# Altium integrated library NSC Legacy.IntLib: 687 symbols (part 11 of 17)
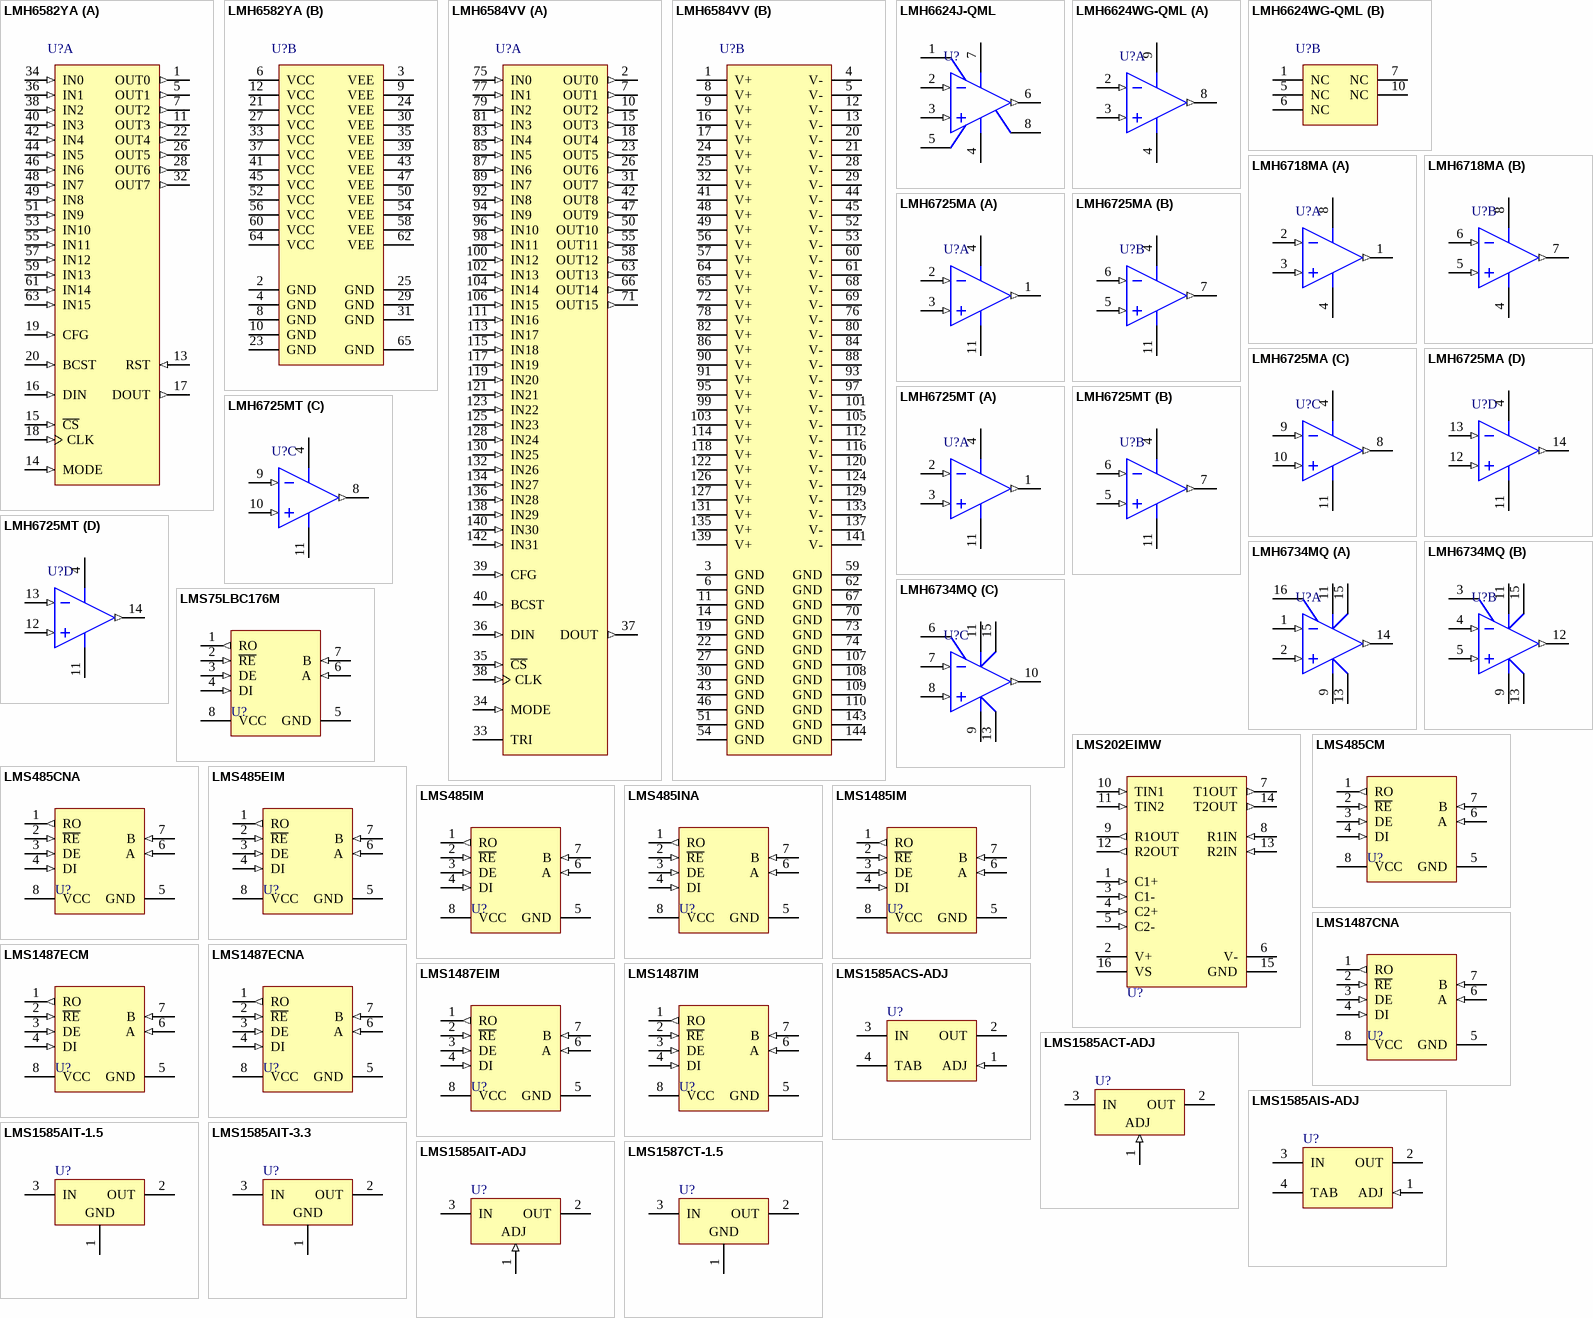
[diagram p34: symbols LMH6582YA to LMS1587CT-1.5]

## LMH6725MT
designator U?
Single/Quad 370 MHz 1 mA Current Feedback Op Amp, 14-pin TSSOP; PartNumber: LMH6725MT; Manufacturer: National Semiconductor; PackageTopMarking: NSUZXYTT*LMH67*25MT; PowerWise: Y; CompType: Amplifiers; Published: 4-Dec-2008; LatestRevisionDate: 13-Jan-2009; LatestRevisionNote: Sim Model Added.; DatasheetVersion: Aug-2005; PackageVersion: revD, Jun-2003; PackageReference: MTC14; Publisher: Altium Limited; PackageDescription: Molded TSSOP, JEDEC, 5 x 4.4 x 0.9mm Body, 14 Lead, 0.65mm Pitch; Supplier 1: Farnell; Supplier Part Number 1: 1286776; RoHS: Y; PinCount: 14; Code_JEDEC: MO-153-AB-1; ComponentLink1Description: LMH6725 Datasheet; ComponentLink1URL: http://www.national.com/ds/LM/LMH6725.pdf; ComponentLink2Description: LMH6725 Web Page; ComponentLink2URL: http://www.national.com/pf/LM/LMH6725.html; ComponentLink3Description: MTC14 Package Page; ComponentLink3URL: http://www.national.com/packaging/folders/mtc14.html
footprint MTC14_N (TSOP, 14-Leads, Body 5x4.4mm, Pitch 0.65mm, IPC Medium Density)
footprint MTC14_L (TSOP, 14-Leads, Body 5x4.4mm, Pitch 0.65mm, IPC High Density)
footprint MTC14_M (TSOP, 14-Leads, Body 5x4.4mm, Pitch 0.65mm, IPC Low Density)
simulation model LMH6723 (SUBCKT)
pins on every part: 4 V+ (power), 11 V- (power)
part A pins: 1 OUTA (out), 2 INA- (in), 3 INA+ (in)
part B pins: 5 INB+ (in), 6 INB- (in), 7 OUTB (out)
part C pins: 8 OUTC (out), 9 INC- (in), 10 INC+ (in)
part D pins: 12 IND+ (in), 13 IND- (in), 14 OUTD (out)

## LMH6734MQ
designator U?
Single Supply, Ultra High-Speed, Triple Selectable Gain Buffer, 16-pin SSOP; PartNumber: LMH6734MQ; Manufacturer: National Semiconductor; PackageTopMarking: NSXYTT*LH67*34MQ; PowerWise: Y; CompType: Amplifiers; Published: 4-Dec-2008; DatasheetVersion: Sep-2007; PackageVersion: revB, Jan-2005; PackageReference: MQA16; Publisher: Altium Limited; PackageDescription: SSOP, .150in Body Width, .025in Pitch, 16 Lead; Supplier 1: Farnell; Supplier Part Number 1: 1433156; RoHS: Y; PinCount: 16; Code_JEDEC: MO-137-AB; ComponentLink1Description: LMH6734 Datasheet; ComponentLink1URL: http://www.national.com/ds/LM/LMH6734.pdf; ComponentLink2Description: LMH6734 Web Page; ComponentLink2URL: http://www.national.com/pf/LM/LMH6734.html; ComponentLink3Description: MQA16 Package Page; ComponentLink3URL: http://www.national.com/packaging/folders/mqa16.html
footprint MQA16_N (SOP, 16-Leads, Body 4.9x3.9mm, Pitch 0.635mm, IPC Medium Density)
footprint MQA16_L (SOP, 16-Leads, Body 4.9x3.9mm, Pitch 0.635mm, IPC High Density)
footprint MQA16_M (SOP, 16-Leads, Body 4.9x3.9mm, Pitch 0.635mm, IPC Low Density)
pins on every part: 9 VS- (power), 11 VS+ (power), 13 VS- (power), 15 VS+ (power)
part A pins: 1 INA- (in), 2 INA+ (in), 14 OUTA (out), 16 ~{DIS A}
part B pins: 3 ~{DIS B}, 4 INB- (in), 5 INB+ (in), 12 OUTB (out)
part C pins: 6 ~{DIS C}, 7 INC- (in), 8 INC+ (in), 10 OUTC (out)

## LMS75LBC176M
designator U?
Differential Bus Transceivers, 8-pin Narrow SOIC; PartNumber: LMS75LBC176M; Manufacturer: National Semiconductor; PackageTopMarking: NSZXTT*75LBC*176; CompType: Interface IC; Published: 4-Dec-2008; DatasheetVersion: Apr-2003; PackageVersion: revM, May-2009; PackageReference: M08A; Publisher: Altium Limited; PackageDescription: SOIC Narrow, 4.9 x 3.9 x 1.45mm, 8 Lead, 1.27mm Pitch; Supplier 1: Farnell; Supplier Part Number 1: 9490760; RoHS: Y; PinCount: 8; Code_JEDEC: MS-012-AA; Code_IPC: SOIC127P600-8; ComponentLink1Description: LMS75LBC176 Datasheet; ComponentLink1URL: http://www.national.com/ds/LM/LMS75LBC176.pdf; ComponentLink2Description: LMS75LBC176 Web Page; ComponentLink2URL: http://www.national.com/pf/LM/LMS75LBC176.html; ComponentLink3Description: M08A Package Page; ComponentLink3URL: http://www.national.com/packaging/folders/m08a.html
footprint M08A_N (SOIC, 8-Leads, Body 4.9x3.9mm, Pitch 1.27mm, IPC Medium Density)
footprint M08A_L (SOIC, 8-Leads, Body 4.9x3.9mm, Pitch 1.27mm, IPC High Density)
footprint M08A_M (SOIC, 8-Leads, Body 4.9x3.9mm, Pitch 1.27mm, IPC Low Density)
pins: 1 RO (out), 2 ~{RE} (in), 3 DE (in), 4 DI (in), 5 GND (power), 6 A (in), 7 B (in), 8 VCC (power)

## LMS202EIMW
designator U?
15KV ESD Rated, 5V Single Supply TIA/EIA-232 Dual Transceivers, 16-pin Wide SOIC; PartNumber: LMS202EIMW; Manufacturer: National Semiconductor; PackageTopMarking: NSUZXYTT*LMS202*EIMW; CompType: Interface IC; Published: 4-Dec-2008; DatasheetVersion: Mar-2003; PackageVersion: revF, Apr-1990; PackageReference: M16B; Publisher: Altium Limited; PackageDescription: Molded Package, S.O., .300in Wide, 16 Lead; Supplier 1: Farnell; Supplier Part Number 1: 9493298; RoHS: Y; PinCount: 16; Code_JEDEC: MS-013-AA; Code_IPC: SOIC127P1030-16; ComponentLink1Description: LMS202E Datasheet; ComponentLink1URL: http://www.national.com/ds/LM/LMS202E.pdf; ComponentLink2Description: LMS202E Web Page; ComponentLink2URL: http://www.national.com/pf/LM/LMS202E.html; ComponentLink3Description: M16B Package Page; ComponentLink3URL: http://www.national.com/packaging/folders/m16b.html
footprint M16B_N (SOIC, 16-Leads, Body 10.3x7.5mm, Pitch 1.27mm, IPC Medium Density)
footprint M16B_L (SOIC, 16-Leads, Body 10.3x7.5mm, Pitch 1.27mm, IPC High Density)
footprint M16B_M (SOIC, 16-Leads, Body 10.3x7.5mm, Pitch 1.27mm, IPC Low Density)
pins: 1 C1+ (in), 2 V+ (power), 3 C1- (in), 4 C2+ (in), 5 C2- (in), 6 V- (power), 7 T1OUT (out), 8 R1IN (in), 9 R1OUT (out), 10 TIN1 (in), 11 TIN2 (in), 12 R2OUT (out), 13 R2IN (in), 14 T2OUT (out), 15 GND (power), 16 VS (power)

## LMS485CM
designator U?
5V Low Power RS-485 / RS-422 Differential Bus Transceiver, 8-pin Narrow SOIC; PartNumber: LMS485CM; Manufacturer: National Semiconductor; PackageTopMarking: NSZXTT*LMS4*85CM; CompType: Interface IC; Published: 4-Dec-2008; DatasheetVersion: Apr-2003; PackageVersion: revM, May-2009; PackageReference: M08A; Publisher: Altium Limited; PackageDescription: SOIC Narrow, 4.9 x 3.9 x 1.45mm, 8 Lead, 1.27mm Pitch; Supplier 1: Farnell; Supplier Part Number 1: 9490663; RoHS: Y; PinCount: 8; Code_JEDEC: MS-012-AA; Code_IPC: SOIC127P600-8; ComponentLink1Description: LMS485 Datasheet; ComponentLink1URL: http://www.national.com/ds/LM/LMS485.pdf; ComponentLink2Description: LMS485 Web Page; ComponentLink2URL: http://www.national.com/pf/LM/LMS485.html; ComponentLink3Description: M08A Package Page; ComponentLink3URL: http://www.national.com/packaging/folders/m08a.html
footprint M08A_N (SOIC, 8-Leads, Body 4.9x3.9mm, Pitch 1.27mm, IPC Medium Density)
footprint M08A_L (SOIC, 8-Leads, Body 4.9x3.9mm, Pitch 1.27mm, IPC High Density)
footprint M08A_M (SOIC, 8-Leads, Body 4.9x3.9mm, Pitch 1.27mm, IPC Low Density)
pins: 1 RO (out), 2 ~{RE} (in), 3 DE (in), 4 DI (in), 5 GND (power), 6 A (in), 7 B (in), 8 VCC (power)

## LMS485CNA
designator U?
5V Low Power RS-485 / RS-422 Differential Bus Transceiver, 8-pin MDIP; PartNumber: LMS485CNA; Manufacturer: National Semiconductor; PackageTopMarking: NSUZXYTT*LMS485CNA; CompType: Interface IC; Published: 4-Dec-2008; DatasheetVersion: Apr-2003; PackageVersion: revG, May-2006; PackageReference: N08E; Publisher: Altium Limited; PackageDescription: MDIP, .365 x .250 x .130in, 8 Lead, .100in Pitch; Supplier 1: Farnell; Supplier Part Number 1: 9490671; RoHS: Y; PinCount: 8; Code_JEDEC: MS-001-BA; ComponentLink1Description: LMS485 Datasheet; ComponentLink1URL: http://www.national.com/ds/LM/LMS485.pdf; ComponentLink2Description: LMS485 Web Page; ComponentLink2URL: http://www.national.com/pf/LM/LMS485.html; ComponentLink3Description: N08E Package Page; ComponentLink3URL: http://www.national.com/packaging/folders/n08e.html
footprint N08E (DIP, 8-Leads, Row Spacing 7.62mm, Pitch 2.54mm, Body 9.91x6.35mm)
pins: 1 RO (out), 2 ~{RE} (in), 3 DE (in), 4 DI (in), 5 GND (power), 6 A (in), 7 B (in), 8 VCC (power)

## LMS485EIM
designator U?
Low Power RS-485 / RS-422 Differential Bus Transceiver-485 / RS-422 Differential Bus Transceiver, 8-pin Narrow SOIC; PartNumber: LMS485EIM; Manufacturer: National Semiconductor; PackageTopMarking: NSZXTT*LMS48*5EIM; CompType: Interface IC; Published: 4-Dec-2008; DatasheetVersion: Apr-2003; PackageVersion: revM, May-2009; PackageReference: M08A; Publisher: Altium Limited; PackageDescription: SOIC Narrow, 4.9 x 3.9 x 1.45mm, 8 Lead, 1.27mm Pitch; Supplier 1: Farnell; Supplier Part Number 1: 8181551; RoHS: Y; PinCount: 8; Code_JEDEC: MS-012-AA; Code_IPC: SOIC127P600-8; ComponentLink1Description: LMS485E Datasheet; ComponentLink1URL: http://www.national.com/ds/LM/LMS485.pdf; ComponentLink2Description: LMS485E Web Page; ComponentLink2URL: http://www.national.com/pf/LM/LMS485E.html; ComponentLink3Description: M08A Package Page; ComponentLink3URL: http://www.national.com/packaging/folders/m08a.html
footprint M08A_N (SOIC, 8-Leads, Body 4.9x3.9mm, Pitch 1.27mm, IPC Medium Density)
footprint M08A_L (SOIC, 8-Leads, Body 4.9x3.9mm, Pitch 1.27mm, IPC High Density)
footprint M08A_M (SOIC, 8-Leads, Body 4.9x3.9mm, Pitch 1.27mm, IPC Low Density)
pins: 1 RO (out), 2 ~{RE} (in), 3 DE (in), 4 DI (in), 5 GND (power), 6 A (in), 7 B (in), 8 VCC (power)

## LMS485IM
designator U?
5V Low Power RS-485 / RS-422 Differential Bus Transceiver, 8-pin Narrow SOIC; PartNumber: LMS485IM; Manufacturer: National Semiconductor; PackageTopMarking: NSZXTT*LMS4*85IM; PowerWise: N; CompType: Interface IC; Published: 4-Dec-2008; DatasheetVersion: Apr-2003; PackageVersion: revM, May-2009; PackageReference: M08A; Publisher: Altium Limited; PackageDescription: SOIC Narrow, 4.9 x 3.9 x 1.45mm, 8 Lead, 1.27mm Pitch; Supplier 1: Farnell; Supplier Part Number 1: 9490680; RoHS: Y; PinCount: 8; Code_JEDEC: MS-012-AA; Code_IPC: SOIC127P600-8; ComponentLink1Description: LMS485 Datasheet; ComponentLink1URL: http://www.national.com/ds/LM/LMS485.pdf; ComponentLink2Description: LMS485 Web Page; ComponentLink2URL: http://www.national.com/pf/LM/LMS485.html; ComponentLink3Description: M08A Package Page; ComponentLink3URL: http://www.national.com/packaging/folders/m08a.html
footprint M08A_N (SOIC, 8-Leads, Body 4.9x3.9mm, Pitch 1.27mm, IPC Medium Density)
footprint M08A_L (SOIC, 8-Leads, Body 4.9x3.9mm, Pitch 1.27mm, IPC High Density)
footprint M08A_M (SOIC, 8-Leads, Body 4.9x3.9mm, Pitch 1.27mm, IPC Low Density)
pins: 1 RO (out), 2 ~{RE} (in), 3 DE (in), 4 DI (in), 5 GND (power), 6 A (in), 7 B (in), 8 VCC (power)

## LMS485INA
designator U?
5V Low Power RS-485 / RS-422 Differential Bus Transceiver, 8-pin MDIP; PartNumber: LMS485INA; Manufacturer: National Semiconductor; PackageTopMarking: NSUZXYTT*LMS485INA; CompType: Interface IC; Published: 4-Dec-2008; DatasheetVersion: Apr-2003; PackageVersion: revG, May-2006; PackageReference: N08E; Publisher: Altium Limited; PackageDescription: MDIP, .365 x .250 x .130in, 8 Lead, .100in Pitch; Supplier 1: Farnell; Supplier Part Number 1: 9490698; RoHS: Y; PinCount: 8; Code_JEDEC: MS-001-BA; ComponentLink1Description: LMS485 Datasheet; ComponentLink1URL: http://www.national.com/ds/LM/LMS485.pdf; ComponentLink2Description: LMS485 Web Page; ComponentLink2URL: http://www.national.com/pf/LM/LMS485.html; ComponentLink3Description: N08E Package Page; ComponentLink3URL: http://www.national.com/packaging/folders/n08e.html
footprint N08E (DIP, 8-Leads, Row Spacing 7.62mm, Pitch 2.54mm, Body 9.91x6.35mm)
pins: 1 RO (out), 2 ~{RE} (in), 3 DE (in), 4 DI (in), 5 GND (power), 6 A (in), 7 B (in), 8 VCC (power)

## LMS1485IM
designator U?
5V Low Power RS-485 Differential Bus Transceiver, 8-pin Narrow SOIC; PartNumber: LMS1485IM; Manufacturer: National Semiconductor; PackageTopMarking: NSZXTT*LMS14*85IM; CompType: Interface IC; Published: 4-Dec-2008; DatasheetVersion: Jul-2003; PackageVersion: revM, May-2009; PackageReference: M08A; Publisher: Altium Limited; PackageDescription: SOIC Narrow, 4.9 x 3.9 x 1.45mm, 8 Lead, 1.27mm Pitch; RoHS: Y; PinCount: 8; Code_JEDEC: MS-012-AA; Code_IPC: SOIC127P600-8; ComponentLink1Description: LMS1485 Datasheet; ComponentLink1URL: http://www.national.com/ds/LM/LMS1485.pdf; ComponentLink2Description: LMS1485 Web Page; ComponentLink2URL: http://www.national.com/pf/LM/LMS1485.html; ComponentLink3Description: M08A Package Page; ComponentLink3URL: http://www.national.com/packaging/folders/m08a.html
footprint M08A_N (SOIC, 8-Leads, Body 4.9x3.9mm, Pitch 1.27mm, IPC Medium Density)
footprint M08A_L (SOIC, 8-Leads, Body 4.9x3.9mm, Pitch 1.27mm, IPC High Density)
footprint M08A_M (SOIC, 8-Leads, Body 4.9x3.9mm, Pitch 1.27mm, IPC Low Density)
pins: 1 RO (out), 2 ~{RE} (in), 3 DE (in), 4 DI (in), 5 GND (power), 6 A (in), 7 B (in), 8 VCC (power)

## LMS1487CNA
designator U?
5V Low Power RS-485 / RS-422 Differential Bus Transceiver, 8-pin MDIP; PartNumber: LMS1487CNA; Manufacturer: National Semiconductor; PackageTopMarking: NSUZXYTT*LMS1487*CNA; CompType: Interface IC; Published: 4-Dec-2008; DatasheetVersion: Apr-2003; PackageVersion: revG, May-2006; PackageReference: N08E; Publisher: Altium Limited; PackageDescription: MDIP, .365 x .250 x .130in, 8 Lead, .100in Pitch; Supplier 1: Farnell; Supplier Part Number 1: 9490728; RoHS: Y; PinCount: 8; Code_JEDEC: MS-001-BA; ComponentLink1Description: LMS1487 Datasheet; ComponentLink1URL: http://www.national.com/ds/LM/LMS1487.pdf; ComponentLink2Description: LMS1487 Web Page; ComponentLink2URL: http://www.national.com/pf/LM/LMS1487.html; ComponentLink3Description: N08E Package Page; ComponentLink3URL: http://www.national.com/packaging/folders/n08e.html
footprint N08E (DIP, 8-Leads, Row Spacing 7.62mm, Pitch 2.54mm, Body 9.91x6.35mm)
pins: 1 RO (out), 2 ~{RE} (in), 3 DE (in), 4 DI (in), 5 GND (power), 6 A (in), 7 B (in), 8 VCC (power)

## LMS1487ECM
designator U?
Low Power RS-485 / RS-422 Differential Bus Transceiver-485 / RS-422 Differential Bus Transceiver, 8-pin Narrow SOIC; PartNumber: LMS1487ECM; Manufacturer: National Semiconductor; PackageTopMarking: NSZXTT*LMS14*87ECM; CompType: Interface IC; Published: 4-Dec-2008; DatasheetVersion: Apr-2003; PackageVersion: revM, May-2009; PackageReference: M08A; Publisher: Altium Limited; PackageDescription: SOIC Narrow, 4.9 x 3.9 x 1.45mm, 8 Lead, 1.27mm Pitch; Supplier 1: Farnell; Supplier Part Number 1: 8181497; RoHS: Y; PinCount: 8; Code_JEDEC: MS-012-AA; Code_IPC: SOIC127P600-8; ComponentLink1Description: LMS1487E Datasheet; ComponentLink1URL: http://www.national.com/ds/LM/LMS1487.pdf; ComponentLink2Description: LMS1487E Web Page; ComponentLink2URL: http://www.national.com/pf/LM/LMS1487E.html; ComponentLink3Description: M08A Package Page; ComponentLink3URL: http://www.national.com/packaging/folders/m08a.html
footprint M08A_N (SOIC, 8-Leads, Body 4.9x3.9mm, Pitch 1.27mm, IPC Medium Density)
footprint M08A_L (SOIC, 8-Leads, Body 4.9x3.9mm, Pitch 1.27mm, IPC High Density)
footprint M08A_M (SOIC, 8-Leads, Body 4.9x3.9mm, Pitch 1.27mm, IPC Low Density)
pins: 1 RO (out), 2 ~{RE} (in), 3 DE (in), 4 DI (in), 5 GND (power), 6 A (in), 7 B (in), 8 VCC (power)

## LMS1487ECNA
designator U?
Low Power RS-485 / RS-422 Differential Bus Transceiver-485 / RS-422 Differential Bus Transceiver, 8-pin MDIP; PartNumber: LMS1487ECNA; Manufacturer: National Semiconductor; PackageTopMarking: NSUZXYTT*LMS1487*ECNA; CompType: Interface IC; Published: 4-Dec-2008; DatasheetVersion: Apr-2003; PackageVersion: revG, May-2006; PackageReference: N08E; Publisher: Altium Limited; PackageDescription: MDIP, .365 x .250 x .130in, 8 Lead, .100in Pitch; Supplier 1: Farnell; Supplier Part Number 1: 8181500; RoHS: Y; PinCount: 8; Code_JEDEC: MS-001-BA; ComponentLink1Description: LMS1487E Datasheet; ComponentLink1URL: http://www.national.com/ds/LM/LMS1487.pdf; ComponentLink2Description: LMS1487E Web Page; ComponentLink2URL: http://www.national.com/pf/LM/LMS1487E.html; ComponentLink3Description: N08E Package Page; ComponentLink3URL: http://www.national.com/packaging/folders/n08e.html
footprint N08E (DIP, 8-Leads, Row Spacing 7.62mm, Pitch 2.54mm, Body 9.91x6.35mm)
pins: 1 RO (out), 2 ~{RE} (in), 3 DE (in), 4 DI (in), 5 GND (power), 6 A (in), 7 B (in), 8 VCC (power)

## LMS1487EIM
designator U?
Low Power RS-485 / RS-422 Differential Bus Transceiver-485 / RS-422 Differential Bus Transceiver, 8-pin Narrow SOIC; PartNumber: LMS1487EIM; Manufacturer: National Semiconductor; PackageTopMarking: NSZXTT*LMS14*87EIM; CompType: Interface IC; Published: 4-Dec-2008; DatasheetVersion: Apr-2003; PackageVersion: revM, May-2009; PackageReference: M08A; Publisher: Altium Limited; PackageDescription: SOIC Narrow, 4.9 x 3.9 x 1.45mm, 8 Lead, 1.27mm Pitch; Supplier 1: Farnell; Supplier Part Number 1: 8181519; RoHS: Y; PinCount: 8; Code_JEDEC: MS-012-AA; Code_IPC: SOIC127P600-8; ComponentLink1Description: LMS1487E Datasheet; ComponentLink1URL: http://www.national.com/ds/LM/LMS1487.pdf; ComponentLink2Description: LMS1487E Web Page; ComponentLink2URL: http://www.national.com/pf/LM/LMS1487E.html; ComponentLink3Description: M08A Package Page; ComponentLink3URL: http://www.national.com/packaging/folders/m08a.html
footprint M08A_N (SOIC, 8-Leads, Body 4.9x3.9mm, Pitch 1.27mm, IPC Medium Density)
footprint M08A_L (SOIC, 8-Leads, Body 4.9x3.9mm, Pitch 1.27mm, IPC High Density)
footprint M08A_M (SOIC, 8-Leads, Body 4.9x3.9mm, Pitch 1.27mm, IPC Low Density)
pins: 1 RO (out), 2 ~{RE} (in), 3 DE (in), 4 DI (in), 5 GND (power), 6 A (in), 7 B (in), 8 VCC (power)

## LMS1487IM
designator U?
5V Low Power RS-485 / RS-422 Differential Bus Transceiver, 8-pin Narrow SOIC; PartNumber: LMS1487IM; Manufacturer: National Semiconductor; PackageTopMarking: NSZXTT*LMS14*87IM; PowerWise: N; CompType: Interface IC; Published: 4-Dec-2008; DatasheetVersion: Apr-2003; PackageVersion: revM, May-2009; PackageReference: M08A; Publisher: Altium Limited; PackageDescription: SOIC Narrow, 4.9 x 3.9 x 1.45mm, 8 Lead, 1.27mm Pitch; Supplier 1: Farnell; Supplier Part Number 1: 9490736; Supplier 2: Farnell; Supplier Part Number 2: 9490736RL; RoHS: O; PinCount: 8; Code_JEDEC: MS-012-AA; Code_IPC: SOIC127P600-8; ComponentLink1Description: LMS1487 Datasheet; ComponentLink1URL: http://www.national.com/ds/LM/LMS1487.pdf; ComponentLink2Description: LMS1487 Web Page; ComponentLink2URL: http://www.national.com/pf/LM/LMS1487.html; ComponentLink3Description: M08A Package Page; ComponentLink3URL: http://www.national.com/packaging/folders/m08a.html
footprint M08A_N (SOIC, 8-Leads, Body 4.9x3.9mm, Pitch 1.27mm, IPC Medium Density)
footprint M08A_L (SOIC, 8-Leads, Body 4.9x3.9mm, Pitch 1.27mm, IPC High Density)
footprint M08A_M (SOIC, 8-Leads, Body 4.9x3.9mm, Pitch 1.27mm, IPC Low Density)
pins: 1 RO (out), 2 ~{RE} (in), 3 DE (in), 4 DI (in), 5 GND (power), 6 A (in), 7 B (in), 8 VCC (power)

## LMS1585ACS-ADJ
designator U?
5A Low Dropout Fast Response Regulators, 3-pin TO-263; PartNumber: LMS1585ACS-ADJ; Manufacturer: National Semiconductor; PackageTopMarking: NSUZXYTTE#*LMS1585*ACS-ADJ; CompType: LDO IC; Published: 4-Dec-2008; DatasheetVersion: Jun-2005; PackageVersion: revF, Apr-2005; PackageReference: TS3B; Publisher: Altium Limited; PackageDescription: TO-263, Molded, .400 x .390 x .180in, 3 Lead, .1in Pitch, Surface Mount; Supplier 1: Farnell; Supplier Part Number 1: 7613799; RoHS: O; PinCount: 3; Code_JEDEC: MO-169-AA; ComponentLink1Description: LMS1585A Datasheet; ComponentLink1URL: http://www.national.com/ds/LM/LMS1585A.pdf; ComponentLink2Description: LMS1585A Web Page; ComponentLink2URL: http://www.national.com/pf/LM/LMS1585A.html; ComponentLink3Description: TS3B Package Page; ComponentLink3URL: http://www.national.com/packaging/folders/ts3b.html
footprint TS3B_N (D2-PAK, 4-Leads, Body 8.6x10.2mm, Pitch 2.54mm, Lead Span 14.2mm, IPC Medium Density)
footprint TS3B_L (D2-PAK, 4-Leads, Body 8.6x10.2mm, Pitch 2.54mm, Lead Span 14.2mm, IPC High Density)
footprint TS3B_M (D2-PAK, 4-Leads, Body 8.6x10.2mm, Pitch 2.54mm, Lead Span 14.2mm, IPC Low Density)
pins: 1 ADJ (in), 2 OUT (power), 3 IN (power), 4 TAB (power)

## LMS1585ACT-ADJ
designator U?
5A Low Dropout Fast Response Regulators, 3-pin TO-220; PartNumber: LMS1585ACT-ADJ; Manufacturer: National Semiconductor; PackageTopMarking: NSUZXYTTE#*LMS1585*ACT-ADJ; CompType: LDO IC; Published: 4-Dec-2008; DatasheetVersion: Jun-2005; PackageVersion: revL, Jan-1992; PackageReference: T03B; Publisher: Altium Limited; PackageDescription: TO-220, Molded, 3 Lead, Straight; RoHS: O; PinCount: 3; ComponentLink1Description: LMS1585A Datasheet; ComponentLink1URL: http://www.national.com/ds/LM/LMS1585A.pdf; ComponentLink2Description: LMS1585A Web Page; ComponentLink2URL: http://www.national.com/pf/LM/LMS1585A.html; ComponentLink3Description: T03B Package Page; ComponentLink3URL: http://www.national.com/packaging/folders/t03b.html
footprint T03B (TO, Thru-Hole, Vertical, Heatsink Mounted; 3 In-Line Leads; Pitch 2.54 mm)
pins: 1 ADJ (in), 2 OUT (power), 3 IN (power)

## LMS1585AIS-ADJ
designator U?
5A Low Dropout Fast Response Regulators, 3-pin TO-263; PartNumber: LMS1585AIS-ADJ; Manufacturer: National Semiconductor; PackageTopMarking: NSUZXYTTE#*LMS1585*AIS-ADJ; CompType: LDO IC; Published: 4-Dec-2008; DatasheetVersion: Jun-2005; PackageVersion: revF, Apr-2005; PackageReference: TS3B; Publisher: Altium Limited; PackageDescription: TO-263, Molded, .400 x .390 x .180in, 3 Lead, .1in Pitch, Surface Mount; RoHS: O; PinCount: 3; Code_JEDEC: MO-169-AA; ComponentLink1Description: LMS1585A Datasheet; ComponentLink1URL: http://www.national.com/ds/LM/LMS1585A.pdf; ComponentLink2Description: LMS1585A Web Page; ComponentLink2URL: http://www.national.com/pf/LM/LMS1585A.html; ComponentLink3Description: TS3B Package Page; ComponentLink3URL: http://www.national.com/packaging/folders/ts3b.html
footprint TS3B_N (D2-PAK, 4-Leads, Body 8.6x10.2mm, Pitch 2.54mm, Lead Span 14.2mm, IPC Medium Density)
footprint TS3B_L (D2-PAK, 4-Leads, Body 8.6x10.2mm, Pitch 2.54mm, Lead Span 14.2mm, IPC High Density)
footprint TS3B_M (D2-PAK, 4-Leads, Body 8.6x10.2mm, Pitch 2.54mm, Lead Span 14.2mm, IPC Low Density)
pins: 1 ADJ (in), 2 OUT (power), 3 IN (power), 4 TAB (power)

## LMS1585AIT-1.5
designator U?
5A Low Dropout Fast Response Regulators, 3-pin TO-220; PartNumber: LMS1585AIT-1.5; Manufacturer: National Semiconductor; PackageTopMarking: NSUZXYTTE#*LMS1585*AIT-1.5; CompType: LDO IC; Published: 4-Dec-2008; DatasheetVersion: Jun-2005; PackageVersion: revL, Jan-1992; PackageReference: T03B; Publisher: Altium Limited; PackageDescription: TO-220, Molded, 3 Lead, Straight; RoHS: Y; PinCount: 3; ComponentLink1Description: LMS1585A Datasheet; ComponentLink1URL: http://www.national.com/ds/LM/LMS1585A.pdf; ComponentLink2Description: LMS1585A Web Page; ComponentLink2URL: http://www.national.com/pf/LM/LMS1585A.html; ComponentLink3Description: T03B Package Page; ComponentLink3URL: http://www.national.com/packaging/folders/t03b.html
footprint T03B (TO, Thru-Hole, Vertical, Heatsink Mounted; 3 In-Line Leads; Pitch 2.54 mm)
pins: 1 GND (power), 2 OUT (power), 3 IN (power)

## LMS1585AIT-3.3
designator U?
5A Low Dropout Fast Response Regulators, 3-pin TO-220; PartNumber: LMS1585AIT-3.3; Manufacturer: National Semiconductor; PackageTopMarking: NSUZXYTTE#*LMS1585*AIT-3.3; CompType: LDO IC; Published: 4-Dec-2008; DatasheetVersion: Jun-2005; PackageVersion: revL, Jan-1992; PackageReference: T03B; Publisher: Altium Limited; PackageDescription: TO-220, Molded, 3 Lead, Straight; RoHS: O; PinCount: 3; ComponentLink1Description: LMS1585A Datasheet; ComponentLink1URL: http://www.national.com/ds/LM/LMS1585A.pdf; ComponentLink2Description: LMS1585A Web Page; ComponentLink2URL: http://www.national.com/pf/LM/LMS1585A.html; ComponentLink3Description: T03B Package Page; ComponentLink3URL: http://www.national.com/packaging/folders/t03b.html
footprint T03B (TO, Thru-Hole, Vertical, Heatsink Mounted; 3 In-Line Leads; Pitch 2.54 mm)
pins: 1 GND (power), 2 OUT (power), 3 IN (power)

## LMS1585AIT-ADJ
designator U?
5A Low Dropout Fast Response Regulators, 3-pin TO-220; PartNumber: LMS1585AIT-ADJ; Manufacturer: National Semiconductor; PackageTopMarking: NSUZXYTTE#*LMS1585*AIT-ADJ; CompType: LDO IC; Published: 4-Dec-2008; DatasheetVersion: Jun-2005; PackageVersion: revL, Jan-1992; PackageReference: T03B; Publisher: Altium Limited; PackageDescription: TO-220, Molded, 3 Lead, Straight; RoHS: O; PinCount: 3; ComponentLink1Description: LMS1585A Datasheet; ComponentLink1URL: http://www.national.com/ds/LM/LMS1585A.pdf; ComponentLink2Description: LMS1585A Web Page; ComponentLink2URL: http://www.national.com/pf/LM/LMS1585A.html; ComponentLink3Description: T03B Package Page; ComponentLink3URL: http://www.national.com/packaging/folders/t03b.html
footprint T03B (TO, Thru-Hole, Vertical, Heatsink Mounted; 3 In-Line Leads; Pitch 2.54 mm)
pins: 1 ADJ (in), 2 OUT (power), 3 IN (power)

## LMS1587CT-1.5
designator U?
3A Low Dropout Fast Response Regulators, 3-pin TO-220; PartNumber: LMS1587CT-1.5; Manufacturer: National Semiconductor; PackageTopMarking: NSUZXYTTE#*LMS1587*CT-1.5; CompType: LDO IC; Published: 4-Dec-2008; DatasheetVersion: Jun-2005; PackageVersion: revL, Jan-1992; PackageReference: T03B; Publisher: Altium Limited; PackageDescription: TO-220, Molded, 3 Lead, Straight; Supplier 1: Digi-Key; Supplier Part Number 1: LMS1587CT-1.5-ND; RoHS: O; PinCount: 3; ComponentLink1Description: LMS1587 Datasheet; ComponentLink1URL: http://www.national.com/ds/LM/LMS1587.pdf; ComponentLink2Description: LMS1587 Web Page; ComponentLink2URL: http://www.national.com/pf/LM/LMS1587.html; ComponentLink3Description: T03B Package Page; ComponentLink3URL: http://www.national.com/packaging/folders/t03b.html
footprint T03B (TO, Thru-Hole, Vertical, Heatsink Mounted; 3 In-Line Leads; Pitch 2.54 mm)
pins: 1 GND (power), 2 OUT (power), 3 IN (power)

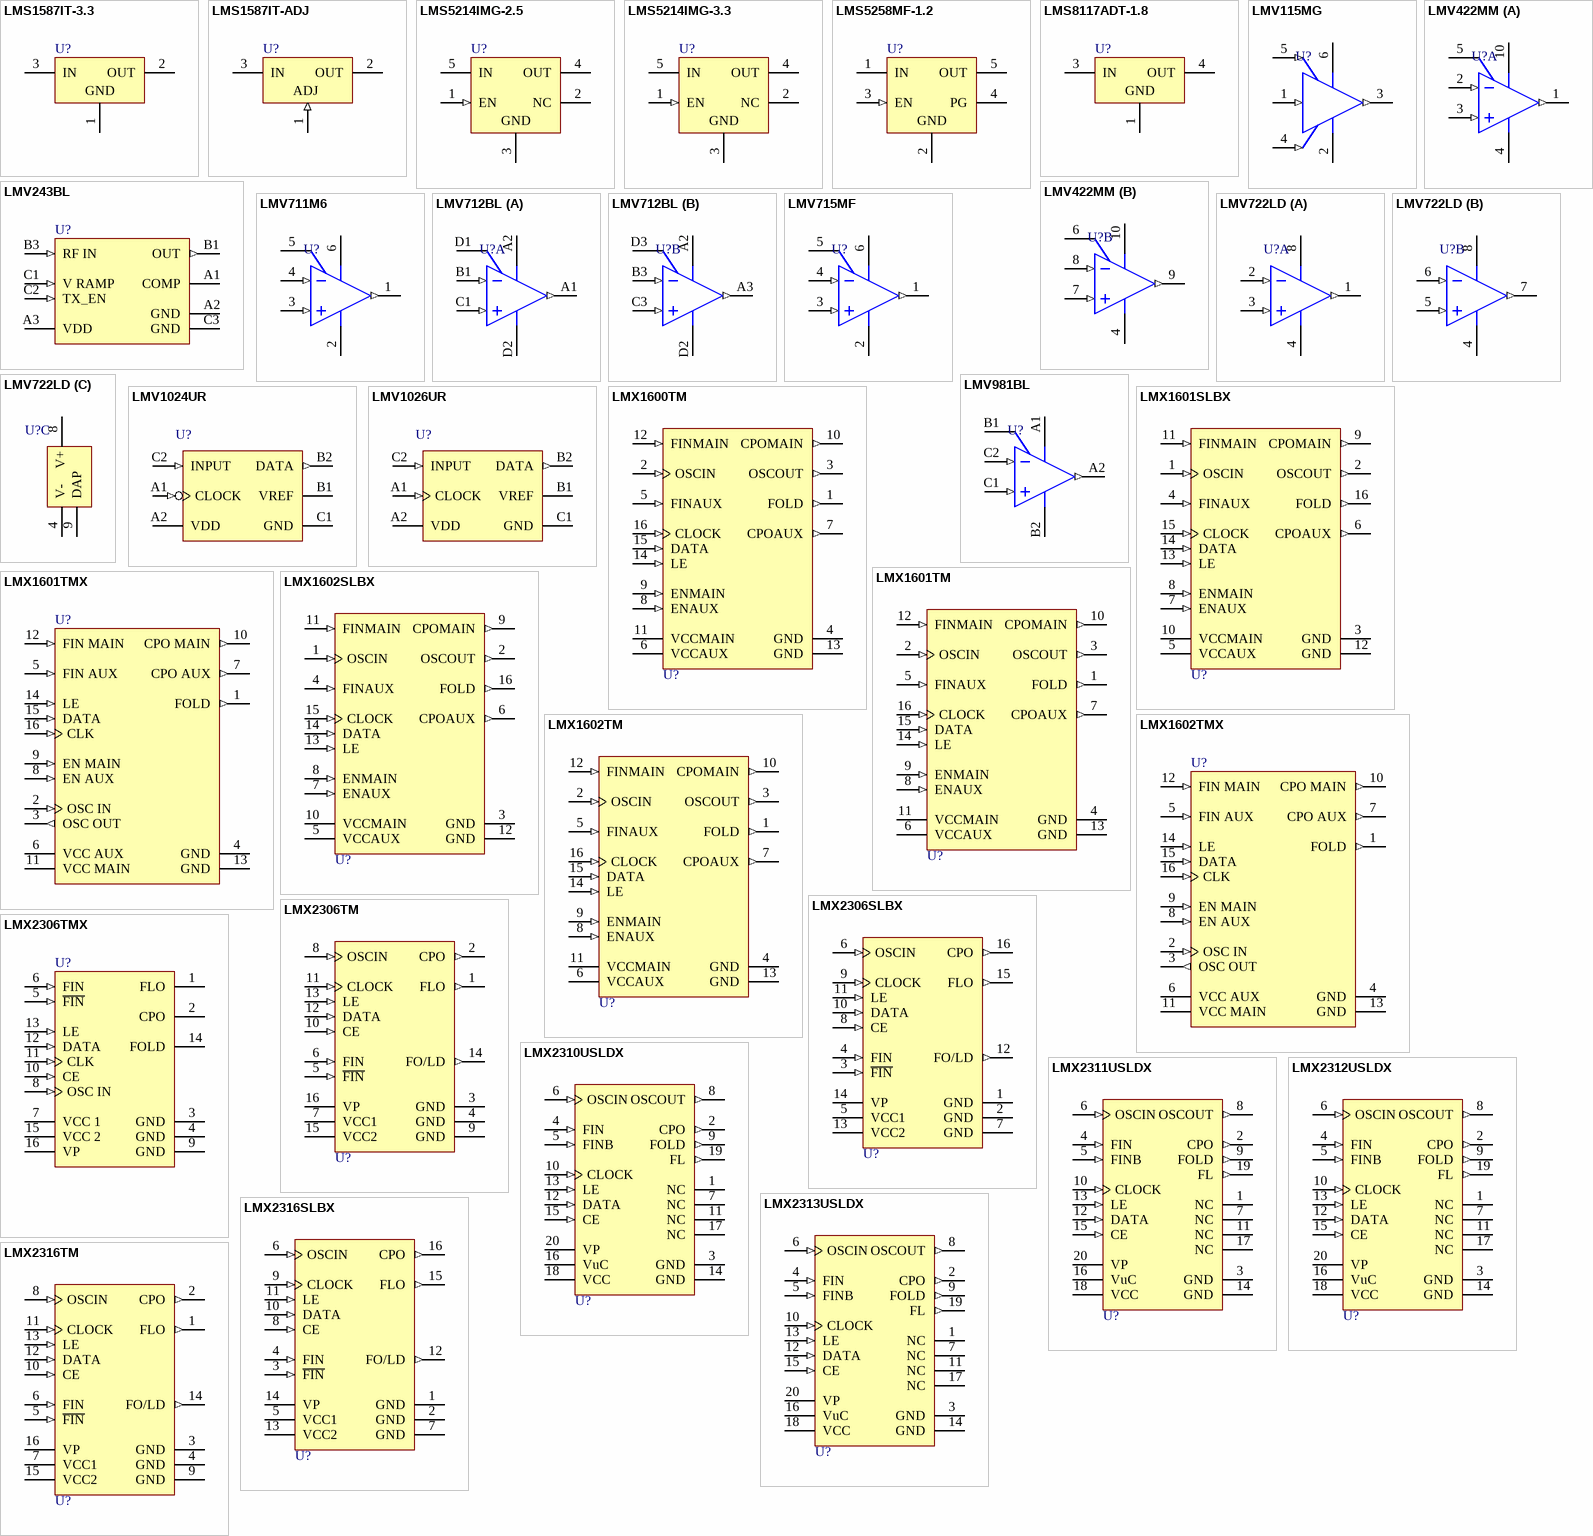
[diagram p17: symbols LMS1587IT-3.3 to LMX2316TM]

## LMS1587IT-3.3
designator U?
3A Low Dropout Fast Response Regulators, 3-pin TO-220; PartNumber: LMS1587IT-3.3; Manufacturer: National Semiconductor; PackageTopMarking: NSUZXYTTE#*LMS1587*IT-3.3; CompType: LDO IC; Published: 4-Dec-2008; DatasheetVersion: Jun-2005; PackageVersion: revL, Jan-1992; PackageReference: T03B; Publisher: Altium Limited; PackageDescription: TO-220, Molded, 3 Lead, Straight; RoHS: O; PinCount: 3; ComponentLink1Description: LMS1587 Datasheet; ComponentLink1URL: http://www.national.com/ds/LM/LMS1587.pdf; ComponentLink2Description: LMS1587 Web Page; ComponentLink2URL: http://www.national.com/pf/LM/LMS1587.html; ComponentLink3Description: T03B Package Page; ComponentLink3URL: http://www.national.com/packaging/folders/t03b.html
footprint T03B (TO, Thru-Hole, Vertical, Heatsink Mounted; 3 In-Line Leads; Pitch 2.54 mm)
pins: 1 GND (power), 2 OUT (power), 3 IN (power)

## LMS1587IT-ADJ
designator U?
3A Low Dropout Fast Response Regulators, 3-pin TO-220; PartNumber: LMS1587IT-ADJ; Manufacturer: National Semiconductor; PackageTopMarking: NSUZXYTTE#*LMS1587*IT-ADJ; CompType: LDO IC; Published: 4-Dec-2008; DatasheetVersion: Jun-2005; PackageVersion: revL, Jan-1992; PackageReference: T03B; Publisher: Altium Limited; PackageDescription: TO-220, Molded, 3 Lead, Straight; Supplier 1: Digi-Key; Supplier Part Number 1: LMS1587IT-ADJ-ND; RoHS: O; PinCount: 3; ComponentLink1Description: LMS1587 Datasheet; ComponentLink1URL: http://www.national.com/ds/LM/LMS1587.pdf; ComponentLink2Description: LMS1587 Web Page; ComponentLink2URL: http://www.national.com/pf/LM/LMS1587.html; ComponentLink3Description: T03B Package Page; ComponentLink3URL: http://www.national.com/packaging/folders/t03b.html
footprint T03B (TO, Thru-Hole, Vertical, Heatsink Mounted; 3 In-Line Leads; Pitch 2.54 mm)
pins: 1 ADJ (in), 2 OUT (power), 3 IN (power)

## LMS5214IMG-2.5
designator U?
80mA, Low Dropout Voltage Regulator with Auto Discharge Function in SC70, 5-pin SC-70; PartNumber: LMS5214IMG-2.5; Manufacturer: National Semiconductor; PackageTopMarking: L0T*XTT; CompType: LDO IC; Published: 4-Dec-2008; DatasheetVersion: Aug-2002; PackageVersion: revD, Jun-2007; PackageReference: MAA05A; Publisher: Altium Limited; PackageDescription: Molded SC-70, 2 x 1.25 x .9mm, 5 Lead, 0.65mm Pitch; Supplier 1: Farnell; Supplier Part Number 1: 9779450; RoHS: O; PinCount: 5; Code_JEITA: SC-88A; Code_JEDEC: MO-203-AA; Code_IPC: SOT353-5; ComponentLink1Description: LMS5214 Datasheet; ComponentLink1URL: http://www.national.com/ds/LM/LMS5214.pdf; ComponentLink2Description: LMS5214 Web Page; ComponentLink2URL: http://www.national.com/pf/LM/LMS5214.html; ComponentLink3Description: MAA05A Package Page; ComponentLink3URL: http://www.national.com/packaging/folders/maa05a.html
footprint MAA05A_N (SOT353, 5-Leads, Body 2x1.3mm, Pitch 0.65mm, Lead Span 2.1mm, IPC Medium Density)
footprint MAA05A_L (SOT353, 5-Leads, Body 2x1.3mm, Pitch 0.65mm, Lead Span 2.1mm, IPC High Density)
footprint MAA05A_M (SOT353, 5-Leads, Body 2x1.3mm, Pitch 0.65mm, Lead Span 2.1mm, IPC Low Density)
pins: 1 EN (in), 2 NC, 3 GND (power), 4 OUT (power), 5 IN (power)

## LMS5214IMG-3.3
designator U?
80mA, Low Dropout Voltage Regulator with Auto Discharge Function in SC70, 5-pin SC-70; PartNumber: LMS5214IMG-3.3; Manufacturer: National Semiconductor; PackageTopMarking: L0Z*XTT; CompType: LDO IC; Published: 4-Dec-2008; DatasheetVersion: Aug-2002; PackageVersion: revD, Jun-2007; PackageReference: MAA05A; Publisher: Altium Limited; PackageDescription: Molded SC-70, 2 x 1.25 x .9mm, 5 Lead, 0.65mm Pitch; Supplier 1: Farnell; Supplier Part Number 1: 9779477; RoHS: Y; PinCount: 5; Code_JEITA: SC-88A; Code_JEDEC: MO-203-AA; Code_IPC: SOT353-5; ComponentLink1Description: LMS5214 Datasheet; ComponentLink1URL: http://www.national.com/ds/LM/LMS5214.pdf; ComponentLink2Description: LMS5214 Web Page; ComponentLink2URL: http://www.national.com/pf/LM/LMS5214.html; ComponentLink3Description: MAA05A Package Page; ComponentLink3URL: http://www.national.com/packaging/folders/maa05a.html
footprint MAA05A_N (SOT353, 5-Leads, Body 2x1.3mm, Pitch 0.65mm, Lead Span 2.1mm, IPC Medium Density)
footprint MAA05A_L (SOT353, 5-Leads, Body 2x1.3mm, Pitch 0.65mm, Lead Span 2.1mm, IPC High Density)
footprint MAA05A_M (SOT353, 5-Leads, Body 2x1.3mm, Pitch 0.65mm, Lead Span 2.1mm, IPC Low Density)
pins: 1 EN (in), 2 NC, 3 GND (power), 4 OUT (power), 5 IN (power)

## LMS5258MF-1.2
designator U?
150mA, uCap, Low Dropout Voltage Regulator with Power Good, 5-pin SOT-23; PartNumber: LMS5258MF-1.2; Manufacturer: National Semiconductor; PackageTopMarking: LF9B*XTT; PowerWise: N; CompType: LDO IC; Published: 4-Dec-2008; DatasheetVersion: Feb-2003; PackageVersion: revD, Aug-2008; PackageReference: MF05A; Publisher: Altium Limited; PackageDescription: Molded SOT-23, .115 x .063 x .040 in Body, 5 Lead, .0375 in Pitch; Supplier 1: Farnell; Supplier Part Number 1: 9779566; RoHS: O; PinCount: 5; ComponentLink1Description: LMS5258 Datasheet; ComponentLink1URL: http://www.national.com/ds/LM/LMS5258.pdf; ComponentLink2Description: LMS5258 Web Page; ComponentLink2URL: http://www.national.com/pf/LM/LMS5258.html; ComponentLink3Description: MF05A Package Page; ComponentLink3URL: http://www.national.com/packaging/folders/mf05a.html
footprint MF05A_N (SOT23, 5-Leads, Body 2.9x1.6mm, Pitch 0.95mm, Lead Span 2.8mm, IPC Medium Density)
footprint MF05A_L (SOT23, 5-Leads, Body 2.9x1.6mm, Pitch 0.95mm, Lead Span 2.8mm, IPC High Density)
footprint MF05A_M (SOT23, 5-Leads, Body 2.9x1.6mm, Pitch 0.95mm, Lead Span 2.8mm, IPC Low Density)
pins: 1 IN (power), 2 GND (power), 3 EN (in), 4 PG (oc), 5 OUT (power)

## LMS8117ADT-1.8
designator U?
1A Low-Dropout Linear Regulator, 3-pin TO-252; PartNumber: LMS8117ADT-1.8; Manufacturer: National Semiconductor; PackageTopMarking: NSUZXYTT*LMS8117*ADT-1.8; CompType: LDO IC; Published: 4-Dec-2008; DatasheetVersion: Apr-2005; PackageVersion: revD, Feb-2009; PackageReference: TD03B; Publisher: Altium Limited; PackageDescription: TO252, Molded, Jedec, 6.8 x 6.10 x 2.30mm Body, 3 Lead, 2.28mm Pitch, Surface Mount; RoHS: O; PinCount: 3; Code_JEDEC: TO-252-AA; ComponentLink1Description: LMS8117A Datasheet; ComponentLink1URL: http://www.national.com/ds/LM/LMS8117A.pdf; ComponentLink2Description: LMS8117A Web Page; ComponentLink2URL: http://www.national.com/pf/LM/LMS8117A.html; ComponentLink3Description: TD03B Package Page; ComponentLink3URL: http://www.national.com/packaging/folders/td03b.html
footprint TD03B_N (D-PAK, 4-Leads, Body 6.1x6.6mm, Pitch 2.29mm, Lead Span 9.7mm, IPC Medium Density)
footprint TD03B_L (D-PAK, 4-Leads, Body 6.1x6.6mm, Pitch 2.29mm, Lead Span 9.7mm, IPC High Density)
footprint TD03B_M (D-PAK, 4-Leads, Body 6.1x6.6mm, Pitch 2.29mm, Lead Span 9.7mm, IPC Low Density)
pins: 1 GND (power), 3 IN (power), 4 OUT (power)

## LMV115MG
designator U?
GSM Baseband 30MHz 2.8V Oscillator Buffer, 6-pin SC-70; PartNumber: LMV115MG; Manufacturer: National Semiconductor; PackageTopMarking: B04*XTT; PowerWise: N; CompType: Amplifiers; Published: 4-Dec-2008; DatasheetVersion: Dec-2003; PackageVersion: revB, Jun-2007; PackageReference: MAA06A; Publisher: Altium Limited; PackageDescription: Molded SC-70, 2 x 1.25 x .9mm, 6 Lead, 0.65mm Pitch; Supplier 1: Farnell; Supplier Part Number 1: 1312823; RoHS: Y; PinCount: 6; ComponentLink1Description: LMV115 Datasheet; ComponentLink1URL: http://www.national.com/ds/LM/LMV115.pdf; ComponentLink2Description: LMV115 Web Page; ComponentLink2URL: http://www.national.com/pf/LM/LMV115.html; ComponentLink3Description: MAA06A Package Page; ComponentLink3URL: http://www.national.com/packaging/folders/maa06a.html
footprint MAA06A_N (SOT363, 6-Leads, Body 2x1.3mm, Pitch 0.65mm, Lead Span 2.1mm, IPC Medium Density)
footprint MAA06A_L (SOT363, 6-Leads, Body 2x1.3mm, Pitch 0.65mm, Lead Span 2.1mm, IPC High Density)
footprint MAA06A_M (SOT363, 6-Leads, Body 2x1.3mm, Pitch 0.65mm, Lead Span 2.1mm, IPC Low Density)
pins: 1 IN (in), 2 GND (power), 3 OUT (out), 4 OSC (in), 5 SHDN (in), 6 VDD (power)

## LMV243BL
designator U?
Single-Channel, Quad-Band GSM Power Controller, 8-pin Micro SMD; PartNumber: LMV243BL; Manufacturer: National Semiconductor; PackageTopMarking: XVA*I 01; CompType: Analog IC; Published: 4-Dec-2008; DatasheetVersion: Feb-2004; PackageVersion: revB, Feb-2002; PackageReference: BLA08AAC; Publisher: Altium Limited; PackageDescription: Micro SMD, 8 Bump (Large), 0.5mm Pitch; Supplier 1: Digi-Key; Supplier Part Number 1: LMV243BLTR-ND; Supplier 2: Digi-Key; Supplier Part Number 2: LMV243BLCT-ND; Supplier 3: Digi-Key; Supplier Part Number 3: LMV243BLDKR-ND; PinCount: 8; Code_JEDEC: MO-211-BC; ComponentLink1Description: LMV243 Datasheet; ComponentLink1URL: http://www.national.com/ds/LM/LMV243.pdf; ComponentLink2Description: LMV243 Web Page; ComponentLink2URL: http://www.national.com/pf/LM/LMV243.html; ComponentLink3Description: BLA08AAC package page; ComponentLink3URL: http://www.national.com/packaging/folders/bla08aac.html
footprint BLA08AAC (Micro SMD, 8-Leads, Body 1.51x1.51mm, Pitch 0.5mm, NSC Recommended)
pins: A1 COMP, A2 GND (power), A3 VDD (power), B1 OUT (out), B3 RF IN (in), C1 V RAMP (in), C2 TX_EN (in), C3 GND (power)

## LMV422MM
designator U?
Dual Rail-to-Rail Output Operational Amplifier with Power Select, 10-pin MSOP; PartNumber: LMV422MM; Manufacturer: National Semiconductor; PackageTopMarking: ZXTT*AJ1A; CompType: Amplifiers; Published: 4-Dec-2008; DatasheetVersion: Feb-2005; PackageVersion: revB, Jul-2003; PackageReference: MUB10A; Publisher: Altium Limited; PackageDescription: Mini-SO, Molded, .118 x .118 x .034in Body, 10 Lead, .0197in Pitch; Supplier 1: Farnell; Supplier Part Number 1: 1008282; RoHS: Y; PinCount: 10; Code_JEDEC: MO-187-BA; ComponentLink1Description: LMV422 Datasheet; ComponentLink1URL: http://www.national.com/ds/LM/LMV422.pdf; ComponentLink2Description: LMV422 Web Page; ComponentLink2URL: http://www.national.com/pf/LM/LMV422.html; ComponentLink3Description: MUB10A Package Page; ComponentLink3URL: http://www.national.com/packaging/folders/mub10a.html
footprint MUB10A_N (TSSOP, 10-Leads, Body 3x3mm, Pitch 0.5mm, IPC Medium Density)
footprint MUB10A_L (TSSOP, 10-Leads, Body 3x3mm, Pitch 0.5mm, IPC High Density)
footprint MUB10A_M (TSSOP, 10-Leads, Body 3x3mm, Pitch 0.5mm, IPC Low Density)
pins on every part: 4 V- (power), 10 V+ (power)
part A pins: 1 OUTA (out), 2 INA- (in), 3 INA+ (in), 5 PS A
part B pins: 6 PS B, 7 INB+ (in), 8 INB- (in), 9 OUTB (out)

## LMV711M6
designator U?
Low Power, RRIO Operational Amplifiers with High Output Current Drive and Shutdown Option, 6-pin SOT-23; PartNumber: LMV711M6; Manufacturer: National Semiconductor; PackageTopMarking: A47A*XTT; PowerWise: N; Published: 4-Dec-2008; LatestRevisionDate: 13-Jan-2009; LatestRevisionNote: Sim Model Added.; DatasheetVersion: Jun-2005; PackageVersion: revC, Sep-2005; PackageReference: MF06A; Publisher: Altium Limited; PackageDescription: Molded SOT-23, .115 x .063 x .040in Body, 6 Lead, .0375in in Pitch; Supplier 1: Farnell; Supplier Part Number 1: 9778870; RoHS: O; PinCount: 6; CompType: Amplifiers; Code_JEDEC: MO-178-AB; Code_IPC: SOT26A-6; ComponentLink1Description: LMV711 Datasheet; ComponentLink1URL: http://www.national.com/ds/LM/LMV711.pdf; ComponentLink2Description: LMV711 Web Page; ComponentLink2URL: http://www.national.com/pf/LM/LMV711.html; ComponentLink3Description: MF06A Package Page; ComponentLink3URL: http://www.national.com/packaging/folders/mf06a.html
footprint MF06A_N (SOT23, 6-Leads, Body 2.9x1.6mm, Pitch 0.95mm, Lead Span 2.8mm, IPC Medium Density)
footprint MF06A_L (SOT23, 6-Leads, Body 2.9x1.6mm, Pitch 0.95mm, Lead Span 2.8mm, IPC High Density)
footprint MF06A_M (SOT23, 6-Leads, Body 2.9x1.6mm, Pitch 0.95mm, Lead Span 2.8mm, IPC Low Density)
simulation model LMV711 (SUBCKT)
pins: 1 OUT (out), 2 V- (power), 3 IN+ (in), 4 IN- (in), 5 SHDN, 6 V+ (power)

## LMV712BL
designator U?
Low Power, Low Noise, High Output, RRIO Dual Operational Amplifier with Independent Shutdown, 10-pin Micro SMD; PartNumber: LMV712BL; Manufacturer: National Semiconductor; PackageTopMarking: XYTT*I A76A; CompType: Amplifiers; Published: 4-Dec-2008; LatestRevisionDate: 13-Jan-2009; LatestRevisionNote: Sim Model Added.; DatasheetVersion: Apr-2008; PackageVersion: revB, Feb-2002; PackageReference: BLP10AAB; Publisher: Altium Limited; PackageDescription: Micro SMD, 10 Bump (Large), Peripheral, 0.5mm Pitch; Supplier 1: Digi-Key; Supplier Part Number 1: LMV712BLTR-ND; Supplier 2: Digi-Key; Supplier Part Number 2: LMV712BLCT-ND; Supplier 3: Digi-Key; Supplier Part Number 3: LMV712BLDKR-ND; RoHS: N; PinCount: 10; Code_JEDEC: MO-211-BD; ComponentLink1Description: LMV712 Datasheet; ComponentLink1URL: http://www.national.com/ds/LM/LMV712.pdf; ComponentLink2Description: LMV712 Web Page; ComponentLink2URL: http://www.national.com/pf/LM/LMV712.html; ComponentLink3Description: BLP10AAB Package Page; ComponentLink3URL: http://www.national.com/packaging/folders/blp10aab.html
footprint BLP10AAB (Micro SMD, 10-Leads, Body 2.0x1.52mm, Pitch 0.5mm, NSC Recommended)
simulation model LMV711 (SUBCKT)
pins on every part: A2 V+ (power), D2 V- (power)
part A pins: A1 OUTA (out), B1 INA- (in), C1 INA+ (in), D1 SDA
part B pins: A3 OUTB (out), B3 INB- (in), C3 INB+ (in), D3 SDB

## LMV715MF
designator U?
Low Power, RRIO Operational Amplifiers with High Output Current Drive and Shutdown Option, 6-pin SOT-23; PartNumber: LMV715MF; Manufacturer: National Semiconductor; PackageTopMarking: A75A*XTT; Published: 4-Dec-2008; DatasheetVersion: Jun-2005; PackageVersion: revC, Sep-2005; PackageReference: MF06A; Publisher: Altium Limited; PackageDescription: Molded SOT-23, .115 x .063 x .040in Body, 6 Lead, .0375in in Pitch; Supplier 1: Farnell; Supplier Part Number 1: 1312828; RoHS: Y; PinCount: 6; CompType: Amplifiers; Code_JEDEC: MO-178-AB; Code_IPC: SOT26A-6; ComponentLink1Description: LMV715 Datasheet; ComponentLink1URL: http://www.national.com/ds/LM/LMV715.pdf; ComponentLink2Description: LMV715 Web Page; ComponentLink2URL: http://www.national.com/pf/LM/LMV715.html; ComponentLink3Description: MF06A Package Page; ComponentLink3URL: http://www.national.com/packaging/folders/mf06a.html
footprint MF06A_N (SOT23, 6-Leads, Body 2.9x1.6mm, Pitch 0.95mm, Lead Span 2.8mm, IPC Medium Density)
footprint MF06A_L (SOT23, 6-Leads, Body 2.9x1.6mm, Pitch 0.95mm, Lead Span 2.8mm, IPC High Density)
footprint MF06A_M (SOT23, 6-Leads, Body 2.9x1.6mm, Pitch 0.95mm, Lead Span 2.8mm, IPC Low Density)
pins: 1 OUT (out), 2 V- (power), 3 IN+ (in), 4 IN- (in), 5 SHDN, 6 V+ (power)

## LMV722LD
designator U?
10MHz, Low Noise, Low Voltage, and Low Power Operational Amplifier, 9-pin LLP; PartNumber: LMV722LD; Manufacturer: National Semiconductor; PackageTopMarking: XYTT*L22; CompType: Amplifiers; Published: 4-Dec-2008; DatasheetVersion: Jul-2008; PackageVersion: revB, Jun-2003; PackageReference: LDA08C; Publisher: Altium Limited; PackageDescription: LLP, Plastic, Dual, 2.5 x 3 x 0.75mm, 8 Lead, 0.5mm Pitch; RoHS: O; PinCount: 8; Code_JEDEC: MO-229-WDED; ComponentLink1Description: LMV722 Datasheet; ComponentLink1URL: http://www.national.com/ds/LM/LMV722.pdf; ComponentLink2Description: LMV722 Web Page; ComponentLink2URL: http://www.national.com/pf/LM/LMV722.html; ComponentLink3Description: LDA08C Package Page; ComponentLink3URL: http://www.national.com/packaging/folders/lda08c.html
footprint LDA08C (PSON, 8-Leads, Body 2.5x3mm, Pitch 0.5mm, NSC Recommended)
pins on every part: 4 V- (power), 8 V+ (power)
part A pins: 1 OUTA (out), 2 INA- (in), 3 INA+ (in)
part B pins: 5 INB+ (in), 6 INB- (in), 7 OUTB (out)
part C pins: 9 DAP

## LMV981BL
designator U?
Single 1.8V, RRIO Operational Amplifiers with Shutdown, 6-pin Micro SMD; PartNumber: LMV981BL; Manufacturer: National Semiconductor; PackageTopMarking: XVA*I A; Published: 4-Dec-2008; LatestRevisionDate: 13-Jan-2009; LatestRevisionNote: Sim Model Added.; DatasheetVersion: Nov-2005; PackageVersion: revB, Feb-2002; PackageReference: BLA06AAB; Publisher: Altium Limited; PackageDescription: Thin Micro SMD, 6 Bump (Large), 0.5mm Pitch; Supplier 1: Digi-Key; Supplier Part Number 1: LMV981BLTR-ND; Supplier 2: Digi-Key; Supplier Part Number 2: LMV981BLCT-ND; Supplier 3: Digi-Key; Supplier Part Number 3: LMV981BLDKR-ND; RoHS: N; PinCount: 6; CompType: Amplifiers; Code_JEDEC: MO-211-BB; ComponentLink1Description: LMV981 Datasheet; ComponentLink1URL: http://www.national.com/ds/LM/LMV981.pdf; ComponentLink2Description: LMV981 Web Page; ComponentLink2URL: http://www.national.com/pf/LM/LMV981.html; ComponentLink3Description: BLA06AAB Package Page; ComponentLink3URL: http://www.national.com/packaging/folders/bla06aab.html
footprint BLA06AAB (Micro SMD, 6-Leads, Body 1.52x1.01mm, Pitch 0.5mm, NSC Recommended)
simulation model LMV981 (SUBCKT)
pins: A1 VDD (power), A2 OUT (out), B1 ~{SHDN}, B2 GND (power), C1 IN+ (in), C2 IN- (in)

## LMV1024UR
designator U?
PDM Output with Pre-Amplifier for Electret Microphones, 6-pin Micro SMD; PartNumber: LMV1024UR; Manufacturer: National Semiconductor; PackageTopMarking: XVA*I E; CompType: Audio IC; Published: 4-Dec-2008; DatasheetVersion: Jul-2009; PackageVersion: revA, Mar-2005; PackageReference: URA06GGA; Publisher: Altium Limited; PackageDescription: Ultra Thin Micro SMD, 6 Bump, Large Dome Bumps, 0.5mm Pitch; RoHS: Y; PinCount: 6; ComponentLink1Description: LMV1024 Datasheet; ComponentLink1URL: http://www.national.com/ds/LM/LMV1024.pdf; ComponentLink2Description: LMV1024 Web Page; ComponentLink2URL: http://www.national.com/pf/LM/LMV1024.html; ComponentLink3Description: URA06GGA Package Page; ComponentLink3URL: http://www.national.com/packaging/folders/ura06gga.html
footprint URA06GGA (Micro SMD, 6-Leads, Body 1.63x1.13mm, Pitch 0.5mm, NSC Recommended)
pins: A1 CLOCK (in), A2 VDD (power), B1 VREF, B2 DATA (out), C1 GND (power), C2 INPUT (in)

## LMV1026UR
designator U?
PDM Output with Pre-Amplifier for Electret Microphones, 6-pin Micro SMD; PartNumber: LMV1026UR; Manufacturer: National Semiconductor; PackageTopMarking: XVA*I F; CompType: Audio IC; Published: 4-Dec-2008; DatasheetVersion: Jul-2009; PackageVersion: revA, Mar-2005; PackageReference: URA06GGA; Publisher: Altium Limited; PackageDescription: Ultra Thin Micro SMD, 6 Bump, Large Dome Bumps, 0.5mm Pitch; RoHS: N; PinCount: 6; ComponentLink1Description: LMV1026 Datasheet; ComponentLink1URL: http://www.national.com/ds/LM/LMV1026.pdf; ComponentLink2Description: LMV1026 Web Page; ComponentLink2URL: http://www.national.com/pf/LM/LMV1026.html; ComponentLink3Description: URA06GGA Package Page; ComponentLink3URL: http://www.national.com/packaging/folders/ura06gga.html
footprint URA06GGA (Micro SMD, 6-Leads, Body 1.63x1.13mm, Pitch 0.5mm, NSC Recommended)
pins: A1 CLOCK (in), A2 VDD (power), B1 VREF, B2 DATA (out), C1 GND (power), C2 INPUT (in)

## LMX1600TM
designator U?
2.0 GHz/500 MHz PLLatinum Low Cost Dual Frequency Synthesizer, 16-pin TSSOP; PartNumber: LMX1600TM; Manufacturer: National Semiconductor; PackageTopMarking: NSUZXYTT*LMX1600*TMDD; CompType: Interface IC; Published: 4-Dec-2008; DatasheetVersion: Jun-2005; PackageVersion: revD, Jun-2003; PackageReference: MTC16; Publisher: Altium Limited; PackageDescription: Molded TSSOP, Jedec, 5 x 4.4 x 0.9mm Body, 16 Lead, 0.65mm Pitch; RoHS: Y; PinCount: 16; Code_JEDEC: MO-153-AB; ComponentLink1Description: LMX1600 Datasheet; ComponentLink1URL: http://www.national.com/ds/LM/LMX1600.pdf; ComponentLink2Description: LMX1600 Web Page; ComponentLink2URL: http://www.national.com/pf/LM/LMX1600.html; ComponentLink3Description: MTC16 Package Page; ComponentLink3URL: http://www.national.com/packaging/folders/mtc16.html
footprint MTC16_N (TSOP, 16-Leads, Body 5x4.4mm, Pitch 0.65mm, IPC Medium Density)
footprint MTC16_L (TSOP, 16-Leads, Body 5x4.4mm, Pitch 0.65mm, IPC High Density)
footprint MTC16_M (TSOP, 16-Leads, Body 5x4.4mm, Pitch 0.65mm, IPC Low Density)
pins: 1 FOLD (out), 2 OSCIN (in), 3 OSCOUT (out), 4 GND (power), 5 FINAUX (in), 6 VCCAUX (power), 7 CPOAUX (out), 8 ENAUX (in), 9 ENMAIN (in), 10 CPOMAIN (out), 11 VCCMAIN (power), 12 FINMAIN (in), 13 GND (power), 14 LE (in), 15 DATA (in), 16 CLOCK (in)

## LMX1601SLBX
designator U?
1.1 GHz/500 MHz PLLatinum Low Cost Dual Frequency Synthesizer, 16-pin CSP; PartNumber: LMX1601SLBX; Manufacturer: National Semiconductor; PackageTopMarking: NSXYTT*X1601*SLBDD; PowerWise: N; CompType: Interface IC; Published: 4-Dec-2008; DatasheetVersion: Jun-2005; PackageVersion: revB, Sep-1998; PackageReference: SLB16A; Publisher: Altium Limited; PackageDescription: CSP, Plastic, Laminated, 3.5 x 3.5 x 1.0mm Body, 16 Lead, 0.5mm Pitch; RoHS: O; PinCount: 16; Code_JEDEC: MO-208-CCE; ComponentLink1Description: LMX1601 Datasheet; ComponentLink1URL: http://www.national.com/ds/LM/LMX1601.pdf; ComponentLink2Description: LMX1601 Web Page; ComponentLink2URL: http://www.national.com/pf/LM/LMX1601.html; ComponentLink3Description: SLB16A Package Page; ComponentLink3URL: http://www.national.com/packaging/folders/slb16a.html
footprint SLB16A (PQFN, 16-Leads, Body 3.5x3.5mm, Pitch 0.5mm, NSC Recommended)
pins: 1 OSCIN (in), 2 OSCOUT (out), 3 GND (power), 4 FINAUX (in), 5 VCCAUX (power), 6 CPOAUX (out), 7 ENAUX (in), 8 ENMAIN (in), 9 CPOMAIN (out), 10 VCCMAIN (power), 11 FINMAIN (in), 12 GND (power), 13 LE (in), 14 DATA (in), 15 CLOCK (in), 16 FOLD (out)

## LMX1601TM
designator U?
1.1 GHz/500 MHz PLLatinum Low Cost Dual Frequency Synthesizer, 16-pin TSSOP; PartNumber: LMX1601TM; Manufacturer: National Semiconductor; PackageTopMarking: NSUZXYTT*LMX1601*TMDD; PowerWise: N; CompType: Interface IC; Published: 4-Dec-2008; DatasheetVersion: Jun-2005; PackageVersion: revD, Jun-2003; PackageReference: MTC16; Publisher: Altium Limited; PackageDescription: Molded TSSOP, Jedec, 5 x 4.4 x 0.9mm Body, 16 Lead, 0.65mm Pitch; RoHS: O; PinCount: 16; Code_JEDEC: MO-153-AB; ComponentLink1Description: LMX1601 Datasheet; ComponentLink1URL: http://www.national.com/ds/LM/LMX1601.pdf; ComponentLink2Description: LMX1601 Web Page; ComponentLink2URL: http://www.national.com/pf/LM/LMX1601.html; ComponentLink3Description: MTC16 Package Page; ComponentLink3URL: http://www.national.com/packaging/folders/mtc16.html
footprint MTC16_N (TSOP, 16-Leads, Body 5x4.4mm, Pitch 0.65mm, IPC Medium Density)
footprint MTC16_L (TSOP, 16-Leads, Body 5x4.4mm, Pitch 0.65mm, IPC High Density)
footprint MTC16_M (TSOP, 16-Leads, Body 5x4.4mm, Pitch 0.65mm, IPC Low Density)
pins: 1 FOLD (out), 2 OSCIN (in), 3 OSCOUT (out), 4 GND (power), 5 FINAUX (in), 6 VCCAUX (power), 7 CPOAUX (out), 8 ENAUX (in), 9 ENMAIN (in), 10 CPOMAIN (out), 11 VCCMAIN (power), 12 FINMAIN (in), 13 GND (power), 14 LE (in), 15 DATA (in), 16 CLOCK (in)

## LMX1601TMX
designator U?
1.1 GHz/500 MHz PLLatinum Low Cost Dual Frequency Synthesizer, 16-pin TSSOP; PartNumber: LMX1601TMX; Manufacturer: National Semiconductor; PackageTopMarking: NSUZXYTT*LMX1601*TMDD; CompType: Analog IC; Published: 4-Dec-2008; DatasheetVersion: Jun-2005; PackageVersion: revD, Jun-2003; PackageReference: MTC16; Publisher: Altium Limited; PackageDescription: Molded TSSOP, Jedec, 5 x 4.4 x 0.9mm Body, 16 Lead, 0.65mm Pitch; PinCount: 16; Code_JEDEC: MO-153-AB; ComponentLink1Description: LMX1601 Datasheet; ComponentLink1URL: http://www.national.com/ds/LM/LMX1601.pdf; ComponentLink2Description: LMX1601 Web Page; ComponentLink2URL: http://www.national.com/pf/LM/LMX1601.html; ComponentLink3Description: MTC16 package page; ComponentLink3URL: http://www.national.com/packaging/folders/mtc16.html
footprint MTC16_N (TSOP, 16-Leads, Body 5x4.4mm, Pitch 0.65mm, IPC Medium Density)
footprint MTC16_L (TSOP, 16-Leads, Body 5x4.4mm, Pitch 0.65mm, IPC High Density)
footprint MTC16_M (TSOP, 16-Leads, Body 5x4.4mm, Pitch 0.65mm, IPC Low Density)
pins: 1 FOLD (out), 2 OSC IN (in), 3 OSC OUT (out), 4 GND (power), 5 FIN AUX (in), 6 VCC AUX (power), 7 CPO AUX (out), 8 EN AUX (in), 9 EN MAIN (in), 10 CPO MAIN (out), 11 VCC MAIN (power), 12 FIN MAIN (in), 13 GND (power), 14 LE (in), 15 DATA (in), 16 CLK (in)